# Altium schematic symbol library Capacitors0603.SchLib: 5 symbols
Pins are listed as number, name and electrical type; pins without a type are passive.

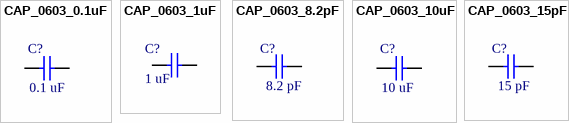
[diagram p0: symbols CAP_0603_0.1uF to CAP_0603_15pF]

## CAP_0603_0.1uF
designator C?, comment 0.1 uF
CAP CER 0.1UF 25V Y5V 0603; Manufacturer: Samsung Electro-Mechanics America, Inc; Manufacturer Part Number: CL10F104ZA8NNNC; Capacitance: 0.1µF; Tolerance: -20%, +80%; Temperature Coefficient: Y5V (F); Supplier 1: Digi-Key; RoHS: RoHS Compliant; Category: Capacitors; Stock 1: 977760; Pricing 1: 1=0.1, 10=0.017, 25=0.012, 50=0.009, 100=0.0076, 250=0.00624, 500=0.00536, 1000=0.00417 (USD); Packaging: Cut Tape (CT); Voltage - Rated: 25V; Mounting Type: Surface Mount, MLCC; Operating Temperature: -30°C ~ 85°C; Applications: General Purpose; Ratings: -; Package / Case: 0603 (1608 Metric); Size / Dimension: 0.063" L x 0.031" W (1.60mm x 0.80mm); Height - Seated (Max): -; Thickness (Max): 0.035" (0.90mm); Lead Spacing: -; Features: -; Lead Style: -; ComponentLink1URL: http://www.samsungsem.com/servlet/FileDownload?type=spec&file=CL10F104ZA8NNNC.pdf; ComponentLink1Description: http://www.samsungsem.com/servlet/FileDownload?type=spec&file=CL10F104ZA8NNNC.pdf; Supplier Part Number 1: 1276-1011-1-ND
footprint RESC1608X08N (Chip Resistor, 2-Leads, Body 1.6x0.8mm, IPC Medium Density)
pins: 1, 2

## CAP_0603_1uF
designator C?, comment 1 uF
CAP CER 1UF 25V 10% X5R 0603; Manufacturer: Samsung Electro-Mechanics America, Inc; Manufacturer Part Number: CL10A105KA8NNNC; Capacitance: 1.0µF; Supplier 1: Digi-Key; RoHS: RoHS Compliant; Category: Capacitors; Stock 1: 130916; Pricing 1: 1=0.1, 10=0.052, 25=0.0364, 50=0.028, 100=0.0237, 250=0.01936, 500=0.01656, 1000=0.0129 (USD); Packaging: Cut Tape (CT); Voltage - Rated: 25V; Tolerance: ±10%; Temperature Coefficient: X5R; Mounting Type: Surface Mount, MLCC; Operating Temperature: -55°C ~ 85°C; Applications: General Purpose; Ratings: -; Package / Case: 0603 (1608 Metric); Size / Dimension: 0.063" L x 0.031" W (1.60mm x 0.80mm); Height - Seated (Max): -; Thickness (Max): 0.035" (0.90mm); Lead Spacing: -; Features: -; Lead Style: -; ComponentLink1URL: http://www.samsungsem.com/servlet/FileDownload?type=spec&file=CL10A105KA8NNNC.pdf; ComponentLink1Description: http://www.samsungsem.com/servlet/FileDownload?type=spec&file=CL10A105KA8NNNC.pdf; Supplier Part Number 1: 1276-1102-1-ND
footprint RESC1608X08N (Chip Resistor, 2-Leads, Body 1.6x0.8mm, IPC Medium Density)
pins: 1, 2

## CAP_0603_8.2pF
designator C?, comment 8.2 pF
CAP CER 8.2PF 50V 10% NP0 0603; Manufacturer: Kemet; Manufacturer Part Number: C0603C829K5GACTU; Temperature Coefficient: C0G, NP0; Supplier 1: Digi-Key; RoHS: RoHS Compliant; Category: Capacitors; Stock 1: 5777; Pricing 1: 1=0.24, 10=0.165, 50=0.1, 100=0.084, 250=0.068, 500=0.06, 1000=0.051 (USD); Packaging: Cut Tape (CT); Capacitance: 8.2pF; Voltage - Rated: 50V; Tolerance: ±10%; Mounting Type: Surface Mount, MLCC; Operating Temperature: -55°C ~ 125°C; Applications: General Purpose; Ratings: -; Package / Case: 0603 (1608 Metric); Size / Dimension: 0.063" L x 0.031" W (1.60mm x 0.80mm); Height - Seated (Max): -; Thickness (Max): 0.034" (0.87mm); Lead Spacing: -; Features: -; Lead Style: -; ComponentLink1URL: http://www.kemet.com/datasheets&C0603C829K5GACTU; ComponentLink1Description: http://www.kemet.com/datasheets&C0603C829K5GACTU; Supplier Part Number 1: 399-9130-1-ND
footprint RESC1608X08N (Chip Resistor, 2-Leads, Body 1.6x0.8mm, IPC Medium Density)
pins: 1, 2

## CAP_0603_10uF
designator C?, comment 10 uF
CAP CER 10UF 25V 20% JB 0603; Manufacturer: Samsung Electro-Mechanics America, Inc; Manufacturer Part Number: CL10A106MA8NRNC; Description: CAP CER 10UF 25V 20% X5R 0603; Capacitance: 10µF; Temperature Coefficient: X5R; Supplier 1: Digi-Key; RoHS: RoHS Compliant; Category: Capacitors; Stock 1: 38925; Pricing 1: 1=0.87, 10=0.828, 25=0.5872, 50=0.4944, 100=0.4017, 250=0.33372, 500=0.30282, 1000=0.2781 (USD); Packaging: Cut Tape (CT); Voltage - Rated: 25V; Tolerance: ±20%; Mounting Type: Surface Mount, MLCC; Operating Temperature: -55°C ~ 85°C; Applications: General Purpose; Ratings: -; Package / Case: 0603 (1608 Metric); Size / Dimension: 0.063" L x 0.031" W (1.60mm x 0.80mm); Height - Seated (Max): -; Thickness (Max): 0.035" (0.90mm); Lead Spacing: -; Features: -; Lead Style: -; ComponentLink1URL: http://www.samsungsem.com/servlet/FileDownload?type=spec&file=CL10A106MA8NRNC.pdf; ComponentLink1Description: http://www.samsungsem.com/servlet/FileDownload?type=spec&file=CL10A106MA8NRNC.pdf; Supplier Part Number 1: 1276-1869-1-ND
footprint RESC1608X08N (Chip Resistor, 2-Leads, Body 1.6x0.8mm, IPC Medium Density)
pins: 1, 2

## CAP_0603_15pF
designator C?, comment 15 pF
CAP CER 15PF 25V 5% NP0 0603; Manufacturer: Kemet; Manufacturer Part Number: C0603C150J3GACAUTO; Temperature Coefficient: C0G, NP0; Supplier 1: Digi-Key; RoHS: RoHS Compliant; Category: Capacitors; Stock 1: 7272; Pricing 1: 1=0.25, 10=0.208, 50=0.117, 100=0.104, 250=0.078, 500=0.0689, 1000=0.0611 (USD); Packaging: Cut Tape (CT); Capacitance: 15pF; Voltage - Rated: 25V; Tolerance: ±5%; Mounting Type: Surface Mount, MLCC; Operating Temperature: -55°C ~ 125°C; Applications: Automotive; Ratings: AEC-Q200; Package / Case: 0603 (1608 Metric); Size / Dimension: 0.063" L x 0.031" W (1.60mm x 0.80mm); Height - Seated (Max): -; Thickness (Max): 0.034" (0.87mm); Lead Spacing: -; Features: -; Lead Style: -; ComponentLink1URL: http://capacitoredge.kemet.com/capedge2/DataSheet?pn=C0603C150J3GACAUTO; ComponentLink1Description: http://capacitoredge.kemet.com/capedge2/DataSheet?pn=C0603C150J3GACAUTO; Supplier Part Number 1: 399-6858-1-ND
footprint RESC1608X08N (Chip Resistor, 2-Leads, Body 1.6x0.8mm, IPC Medium Density)
pins: 1, 2